# Altium schematic symbol library nucleoduro_lib_audio.SchLib: 15 symbols
Pins are listed as number, name and electrical type; pins without a type are passive.

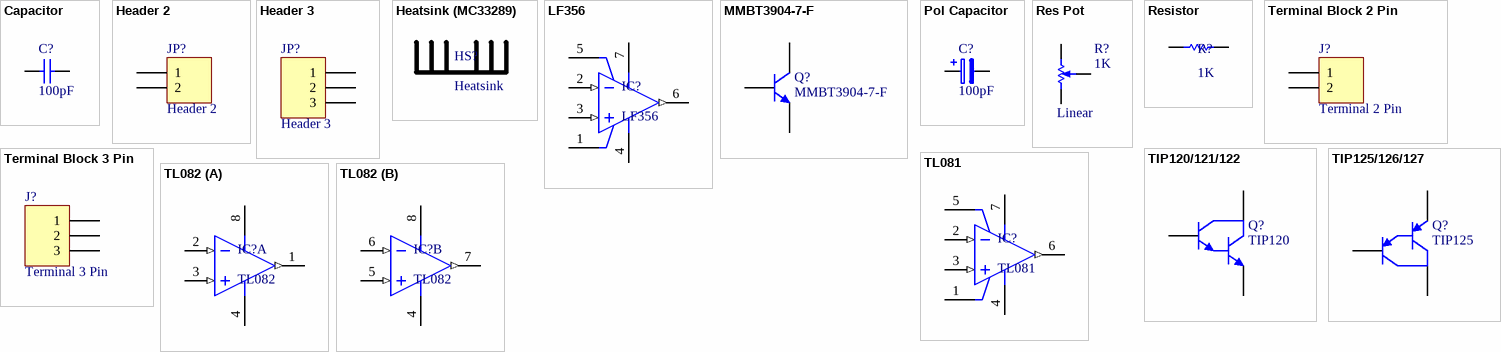
[diagram p0: symbols Capacitor to TL082]

## Capacitor
designator C?, comment 100pF
Capacitor; Value: 100pF
simulation model CAP (Capacitor)
signal-integrity model Cap
footprint C0805 (Chip Capacitor, 2-Leads, Body 2,00x1,25mm, IPC Medium Density)
footprint C1206 (Chip Capacitor, 2-Leads, Body 3,20x1,60mm, IPC Medium Density)
pins: 1, 2

## Header 2
designator JP?
Header, 2-Pin
footprint HDR1X2 (Connector; Header; 2 Position)
signal-integrity model Connector
pins: 1, 2

## Header 3
designator JP?
Header, 3-Pin
footprint HDR1X3 (Connector; Header; 3 Position)
signal-integrity model Connector
pins: 1, 2, 3

## Heatsink (MC33289)
designator HS?, comment Heatsink
footprint MC33289

## LF356
designator IC?
footprint SOIC127P600X175-8N (SOIC, 8-Leads, Body 4,90x3,90mm, Pitch 1,27mm, IPC Medium Density)
pins: 1 BALANCE1, 2 IN- (in), 3 IN+ (in), 4 V- (power), 5 BALANCE2, 6 OUT (out), 7 V+ (power)

## MMBT3904-7-F
designator Q?
NPN General Purpose Amplifier SMD
simulation model 2N3904 (NPN)
signal-integrity model 2N3904
footprint SOT95P240X110-3N (SOT23, 3-Leads, Body 2,90x2,40mm, Pitch 0,95mm, IPC Medium Density)
pins: 1 B, 2 E, 3 C

## Pol Capacitor
designator C?, comment 100pF
Polarized Capacitor; Value: 100pF
simulation model CAP (Capacitor)
signal-integrity model Cap
footprint C0805 (Chip Capacitor, 2-Leads, Body 2,00x1,25mm, IPC Medium Density)
footprint C1206 (Chip Capacitor, 2-Leads, Body 3,20x1,60mm, IPC Medium Density)
footprint CRADIAL-2.5mm
footprint CRADIAL-2mm
pins: 1, 2

## Res Pot
designator R?, comment 1K  Type: Linear
Square Trimming Potentiometer; Value: 1K
footprint Res Pot Square Trimm
pins: 1, 2, 3
1 alternate drawing of the same symbol

## Resistor
designator R?, comment 1K
Resistor; Value: 1K; Power: *
simulation model RESISTOR (Resistor)
signal-integrity model Res
footprint R0805 (Chip Resistor, 2-Leads, Body 2,00x1,25mm, IPC Medium Density)
footprint R1206 (Chip Resistor, 2-Leads, Body 3,20x1,60mm, IPC Medium Density)
footprint RAXIAL-20mm-1mm (Axial 3W resistor)
footprint R2512 (Chip Resistor, 2-Leads, Body 6,40x3,20mm, IPC Medium Density)
footprint RAXIAL-5mm-1mm (Axial 3W resistor)
pins: 1, 2

## Terminal Block 2 Pin
designator J?, comment Terminal 2 Pin
Terminal Block, 2 Pin
signal-integrity model Connector
footprint 2 Pin 5mm Terminal Block
pins: 1, 2

## Terminal Block 3 Pin
designator J?, comment Terminal 3 Pin
Terminal Block, 3 Pin
signal-integrity model Connector
footprint 3 Pin 5mm Terminal Block
pins: 1, 2, 3

## TIP120/121/122
designator Q?, comment TIP120
NPN Darlington Bipolar Transistor
simulation model NPN1 (Spice Subcircuit)
signal-integrity model NPN
footprint TO-220
pins: 1 B, 2 C, 3 E

## TIP125/126/127
designator Q?, comment TIP125
PNP Darlington Bipolar Transistor
simulation model PNP1 (Spice Subcircuit)
signal-integrity model PNP
footprint TO-220
pins: 1 B, 2 C, 3 E

## TL081
designator IC?
footprint SOIC127P600X175-8N (SOIC, 8-Leads, Body 4,90x3,90mm, Pitch 1,27mm, IPC Medium Density)
pins: 1 OFFSET N1, 2 IN- (in), 3 IN+ (in), 4 V- (power), 5 OFFSET N2, 6 OUT (out), 7 V+ (power)

## TL082
designator IC?
footprint SOIC127P600X175-8N (SOIC, 8-Leads, Body 4,90x3,90mm, Pitch 1,27mm, IPC Medium Density)
part A pins: 1 OUT1 (out), 2 IN-1 (in), 3 IN+1 (in), 4 V- (power), 8 V+ (power)
part B pins: 4 V- (power), 5 IN+2 (in), 6 IN-2 (in), 7 OUT2 (out), 8 V+ (power)